# EAGLE library part PWR_REG_TPS54302DDCR (library !GPLIB_ACTIVE)
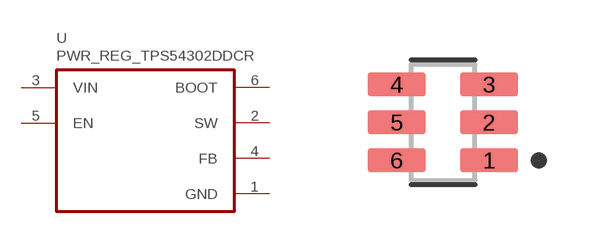
[diagram p10: symbol with the pads of SOT95P280X110-6N; footprint SOT95P280X110-6N]

Designator prefix U

## PWR_REG_TPS54302DDCR  [SOT95P280X110-6N]
1  GND  pwr
2  SW  out
3  VIN  pwr
4  FB  in
5  EN  in
6  BOOT  out

## Footprint SOT95P280X110-6N (pad centres in mm)
smd 1.45 x 0.59: 1 1.155,-0.95; 2 1.155,0; 3 1.155,0.95; 4 -1.155,0.95; 5 -1.155,0; 6 -1.155,-0.95